# Altium footprint library AD630JNZ.PcbLib: 1 footprints
Each footprint in its own frame and in the unit in brackets; x right, y up, seen from the top. Pads: shape width x height; smd on the part's side, far side on the other; paste and mask are expansions set on the pad; w line width, h text height; cw(c..) or ccw(c..) is an arc to the next point about the centre after c.
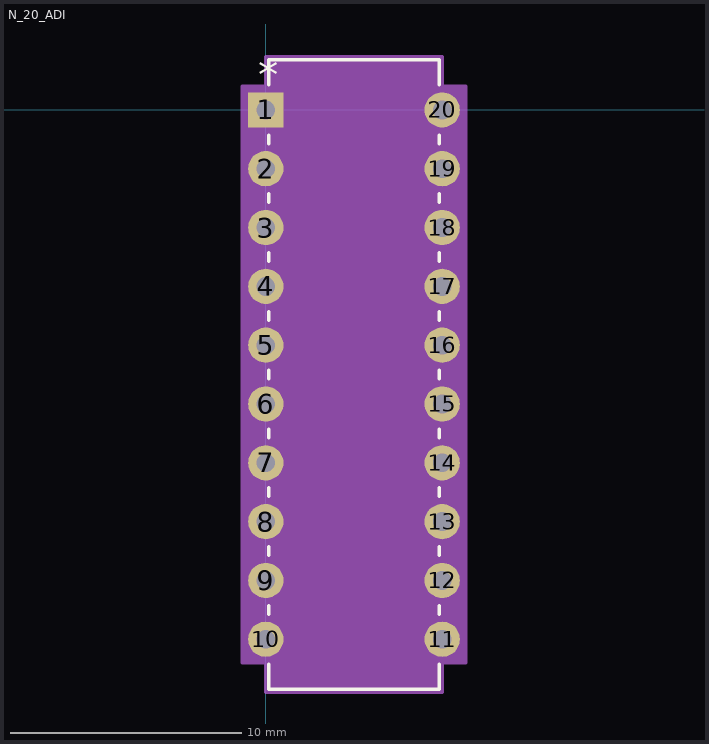
[diagram p0: the footprint, top view; thin cyan lines are the x and y axes]

## N_20_ADI [mil]
pads (20):
  rect 60x60 / inner round 60 / far side rect 60x60 hole 32 paste-30 mask+0: 1(0,0)
  round 60 hole 32 paste-30 mask+0: 2(0,-100) 3(0,-200) 4(0,-300) 5(0,-400) 6(0,-500) 7(0,-600) 8(0,-700) 9(0,-800) 10(0,-900) 11(300,-900) 12(300,-800) 13(300,-700) 14(300,-600) 15(300,-500) 16(300,-400) 17(300,-300) 18(300,-200) 19(300,-100) 20(300,0)
Top Overlay:
  lines w6: 5,-942.81 5,-985 295,-985 295,-942.81 ; 5,-857.19 5,-842.81 ; 5,-757.19 5,-742.81 ; 5,-657.19 5,-642.81 ; 5,-557.19 5,-542.81 ; 5,-457.19 5,-442.81 ; 5,-357.19 5,-342.81 ; 5,-257.19 5,-242.81 ; 5,-157.19 5,-142.81 ; 5,-57.19 5,-43.1 ; 5,43.1 5,85 295,85 295,42.81 ; 295,-857.19 295,-842.81 ; 295,-757.19 295,-742.81 ; 295,-657.19 295,-642.81 ; 295,-557.19 295,-542.81 ; 295,-457.19 295,-442.81 ; 295,-357.19 295,-342.81 ; 295,-257.19 295,-242.81 ; 295,-157.19 295,-142.81 ; 295,-57.19 295,-42.81
  text "*" at -12.5,35 h50
Mechanical 13:
  lines w0: 138,80 ccw(c150,80) 162,80
  lines w1: -16,-916 -16,-884 10,-884 10,-916 -16,-916 ; -16,-816 -16,-784 10,-784 10,-816 -16,-816 ; -16,-716 -16,-684 10,-684 10,-716 -16,-716 ; -16,-616 -16,-584 10,-584 10,-616 -16,-616 ; -16,-516 -16,-484 10,-484 10,-516 -16,-516 ; -16,-416 -16,-384 10,-384 10,-416 -16,-416 ; -16,-316 -16,-284 10,-284 10,-316 -16,-316 ; -16,-216 -16,-184 10,-184 10,-216 -16,-216 ; -16,-116 -16,-84 10,-84 10,-116 -16,-116 ; -16,-16 -16,16 10,16 10,-16 -16,-16 ; 10,-980 290,-980 290,80 10,80 10,-980 ; 290,-916 290,-884 316,-884 316,-916 290,-916 ; 290,-816 290,-784 316,-784 316,-816 290,-816 ; 290,-716 290,-684 316,-684 316,-716 290,-716 ; 290,-616 290,-584 316,-584 316,-616 290,-616 ; 290,-516 290,-484 316,-484 316,-516 290,-516 ; 290,-416 290,-384 316,-384 316,-416 290,-416 ; 290,-316 290,-284 316,-284 316,-316 290,-316 ; 290,-216 290,-184 316,-184 316,-216 290,-216 ; 290,-116 290,-84 316,-84 316,-116 290,-116 ; 290,-16 290,16 316,16 316,-16 290,-16
  text "*" at 7.5,-25 h50
Mechanical 15:
  region: 300,-940 340,-940 340,40 300,40 300,90 0,90 0,40 -40,40 -40,-940 0,-940 0,-990 300,-990
  lines w6: -40,-940 -40,40 0,40 0,90 300,90 300,40 340,40 340,-940 300,-940 300,-990 0,-990 0,-940 -40,-940
3D body "N_20_ADI.step": height 215.12, standoff -100, extent -5,-980 315,80